# Altium integrated library Wurth_Elektronik_Passive_rev16a.IntLib: 1143 symbols (part 27 of 28)
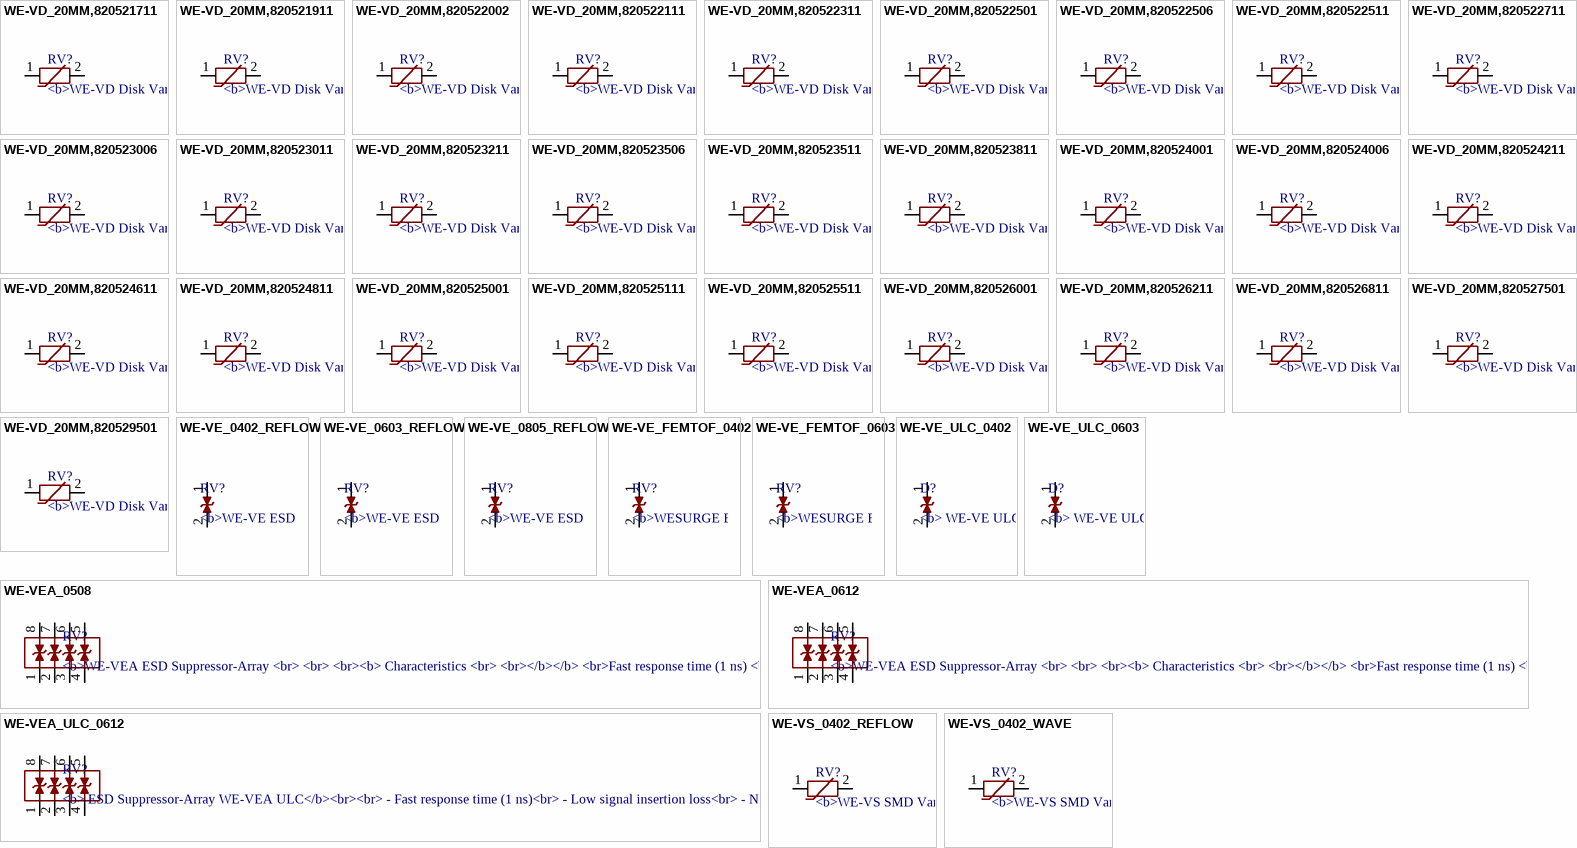
[diagram p84: symbols WE-VD_20MM,820521711 to WE-VS_0402_WAVE]

## WE-VE_0402_REFLOW
designator RV?, comment <b>WE-VE ESD Suppressor / <br> / <br> / <br><b> Characteristics / <br> / <br></b></b> Fast response time / <br> / <br> No leakage current / <br> / <br> Low clamping voltage / <br> / <br> Almost no energy consumption in stand-by mode / <br> / <br> Excellent absorption for ESD-impulses / <br> / <br> Operating temperature: –40 ºC to +85 ºC / <br> / <br> Nickel barrier / <br> / <br> / <br><b> Applications / <br> / <br></b> Protection of data lines / <br> / <br> Protection of bus systems / <br> / <br> Protection of semiconductors / <br> / <br> ESD protection in accordance with EN 61000-4-2 – 8 kV contact discharge – 15 kV air discharge / <br> / <br> / <br> / <br><a href="http://katalog.we-online.de/media/images/eisos/VarVE_pf2.jpg" title="Enlarge picture"> / <img src="http://katalog.we-online.de/media/images/eisos/VarVE_pf2.jpg" width="320"></a><p> / Details see: <a href="http://katalog.we-online.de/en/pbs/WE-VE?">http://katalog.we-online.de/en/pbs/WE-VE?</a><p> / Updated  by  Dan Xu 2014-07-11<br> / 2014 (C) Wurth Elektronik
footprint WESURGE_0402_REFLOW
pins: 1, 2

## WE-VE_0603_REFLOW
designator RV?, comment <b>WE-VE ESD Suppressor / <br> / <br> / <br><b> Characteristics / <br> / <br></b></b> Fast response time / <br> / <br> No leakage current / <br> / <br> Low clamping voltage / <br> / <br> Almost no energy consumption in stand-by mode / <br> / <br> Excellent absorption for ESD-impulses / <br> / <br> Operating temperature: –40 ºC to +85 ºC / <br> / <br> Nickel barrier / <br> / <br> / <br><b> Applications / <br> / <br></b> Protection of data lines / <br> / <br> Protection of bus systems / <br> / <br> Protection of semiconductors / <br> / <br> ESD protection in accordance with EN 61000-4-2 – 8 kV contact discharge – 15 kV air discharge / <br> / <br> / <br> / <br><a href="http://katalog.we-online.de/media/images/eisos/VarVE_pf2.jpg" title="Enlarge picture"> / <img src="http://katalog.we-online.de/media/images/eisos/VarVE_pf2.jpg" width="320"></a><p> / Details see: <a href="http://katalog.we-online.de/en/pbs/WE-VE?">http://katalog.we-online.de/en/pbs/WE-VE?</a><p> / Updated  by  Dan Xu 2014-07-11<br> / 2014 (C) Wurth Elektronik
footprint WESURGE_0603_REFLOW
pins: 1, 2

## WE-VE_0805_REFLOW
designator RV?, comment <b>WE-VE ESD Suppressor / <br> / <br> / <br><b> Characteristics / <br> / <br></b></b> Fast response time / <br> / <br> No leakage current / <br> / <br> Low clamping voltage / <br> / <br> Almost no energy consumption in stand-by mode / <br> / <br> Excellent absorption for ESD-impulses / <br> / <br> Operating temperature: –40 ºC to +85 ºC / <br> / <br> Nickel barrier / <br> / <br> / <br><b> Applications / <br> / <br></b> Protection of data lines / <br> / <br> Protection of bus systems / <br> / <br> Protection of semiconductors / <br> / <br> ESD protection in accordance with EN 61000-4-2 – 8 kV contact discharge – 15 kV air discharge / <br> / <br> / <br> / <br><a href="http://katalog.we-online.de/media/images/eisos/VarVE_pf2.jpg" title="Enlarge picture"> / <img src="http://katalog.we-online.de/media/images/eisos/VarVE_pf2.jpg" width="320"></a><p> / Details see: <a href="http://katalog.we-online.de/en/pbs/WE-VE?">http://katalog.we-online.de/en/pbs/WE-VE?</a><p> / Updated  by  Dan Xu 2014-07-11<br> / 2014 (C) Wurth Elektronik
footprint WESURGE_0805_REFLOW
pins: 1, 2

## WE-VE_FEMTOF_0402
designator RV?, comment <b>WESURGE ESD Suppressor WE-VE femtoF</b><br><br> / - low capacitance: 0,05 pF<br> / - Low leakage current: 1 nA<br> / - ESD electrical strenght >2000 impulses<br> / - Bi-directional protection<br> / - ESD protection > 15 kV<br> / - high reliability<br> / - Nickel barrier<br><br> / -- Antenna<br> / -- HDMI / DVI / VGA<br> / -- USB 2.0 / IEEE1394<br> / -- Lan 10 GBit
footprint WE-VE_FEMTOF_0402
pins: 1, 2

## WE-VE_FEMTOF_0603
designator RV?, comment <b>WESURGE ESD Suppressor WE-VE femtoF</b><br><br> / - low capacitance: 0,05 pF<br> / - Low leakage current: 1 nA<br> / - ESD electrical strenght >2000 impulses<br> / - Bi-directional protection<br> / - ESD protection > 15 kV<br> / - high reliability<br> / - Nickel barrier<br><br> / -- Antenna<br> / -- HDMI / DVI / VGA<br> / -- USB 2.0 / IEEE1394<br> / -- Lan 10 GBit
footprint WE-VE_FEMTOF_0603
pins: 1, 2

## WE-VE_ULC_0402
designator D?, comment <b> WE-VE ULC ESD Suppressor / <br> / <br> / <br><b> Characteristics / <br> / <br></b></b> Fast response time / <br> / <br> No leakage current / <br> / <br> Low clamping voltage / <br> / <br> Almost no energy consumption in stand-by mode / <br> / <br> Excellent absorption for ESD-impulses / <br> / <br> Operating temperature: –40 ºC to +85 ºC / <br> / <br> Nickel barrier / <br> / <br> / <br><b> Applications / <br> / <br></b> Protection of data lines / <br> / <br> Protection of bus systems / <br> / <br> Protection of semiconductors / <br> / <br> ESD protection in accordance with EN 61000-4-2 – 8 kV contact discharge – 15 kV air discharge / <br> / <br> / <br> / <br><a href="http://katalog.we-online.de/media/images/eisos/VarVE_ULC_pf2.jpg" title="Enlarge picture"> / <img src="http://katalog.we-online.de/media/images/eisos/VarVE_ULC_pf2.jpg" width="320"></a><p> / Details see: <a href="http://katalog.we-online.de/en/pbs/WE-VE_ULC?">http://katalog.we-online.de/en/pbs/WE-VE_ULC?</a><p> / Updated  by  Dan Xu 2014-07-11<br> / 2014 (C) Wurth Elektronik
footprint WE-VE_ULC_0402
pins: 1, 2

## WE-VE_ULC_0603
designator D?, comment <b> WE-VE ULC ESD Suppressor / <br> / <br> / <br><b> Characteristics / <br> / <br></b></b> Fast response time / <br> / <br> No leakage current / <br> / <br> Low clamping voltage / <br> / <br> Almost no energy consumption in stand-by mode / <br> / <br> Excellent absorption for ESD-impulses / <br> / <br> Operating temperature: –40 ºC to +85 ºC / <br> / <br> Nickel barrier / <br> / <br> / <br><b> Applications / <br> / <br></b> Protection of data lines / <br> / <br> Protection of bus systems / <br> / <br> Protection of semiconductors / <br> / <br> ESD protection in accordance with EN 61000-4-2 – 8 kV contact discharge – 15 kV air discharge / <br> / <br> / <br> / <br><a href="http://katalog.we-online.de/media/images/eisos/VarVE_ULC_pf2.jpg" title="Enlarge picture"> / <img src="http://katalog.we-online.de/media/images/eisos/VarVE_ULC_pf2.jpg" width="320"></a><p> / Details see: <a href="http://katalog.we-online.de/en/pbs/WE-VE_ULC?">http://katalog.we-online.de/en/pbs/WE-VE_ULC?</a><p> / Updated  by  Dan Xu 2014-07-11<br> / 2014 (C) Wurth Elektronik
footprint WE-VE_ULC_0603
pins: 1, 2

## WE-VEA_0508
designator RV?, comment <b>WE-VEA ESD Suppressor-Array / <br> / <br> / <br><b> Characteristics / <br> / <br></b></b> <br>Fast response time (1 ns) / <br> / <br> Low signal insertion loss / <br> / <br> No leakage current / <br> / <br> Low clamping voltage / <br> / <br> Almost no energy consumption in stand-by mode / <br> / <br> Excellent absorption for ESD-impulses / <br> / <br> Operating temperature: –40 ºC to +85 ºC / <br> / <br> / <br><b> Applications / <br> / <br><b> Protection of data lines / <br> / <br> Protection of bus systems / <br> / <br> Protection of video transmission lines / <br> / <br> Protection of semiconductors / <br> / <br> ESD protection in accordance with EN 61000-4-2 / <br> / <br> / <br> / <br><a href="http://katalog.we-online.de/media/images/eisos/VarVEA_pf2.jpg" title="Enlarge picture"> / <img src="http://katalog.we-online.de/media/images/eisos/VarVEA_pf2.jpg" width="320"></a><p> / Details see: <a href="http://katalog.we-online.de/en/pbs/WE-VEA?">http://katalog.we-online.de/en/pbs/WE-VEA?</a><p> / Updated  by  Dan Xu 2014-07-11<br> / 2014 (C) Wurth Elektronik
footprint WE-VEA_0508
pins: 1, 2, 3, 4, 5, 6, 7, 8

## WE-VEA_0612
designator RV?, comment <b>WE-VEA ESD Suppressor-Array / <br> / <br> / <br><b> Characteristics / <br> / <br></b></b> <br>Fast response time (1 ns) / <br> / <br> Low signal insertion loss / <br> / <br> No leakage current / <br> / <br> Low clamping voltage / <br> / <br> Almost no energy consumption in stand-by mode / <br> / <br> Excellent absorption for ESD-impulses / <br> / <br> Operating temperature: –40 ºC to +85 ºC / <br> / <br> / <br><b> Applications / <br> / <br><b> Protection of data lines / <br> / <br> Protection of bus systems / <br> / <br> Protection of video transmission lines / <br> / <br> Protection of semiconductors / <br> / <br> ESD protection in accordance with EN 61000-4-2 / <br> / <br> / <br> / <br><a href="http://katalog.we-online.de/media/images/eisos/VarVEA_pf2.jpg" title="Enlarge picture"> / <img src="http://katalog.we-online.de/media/images/eisos/VarVEA_pf2.jpg" width="320"></a><p> / Details see: <a href="http://katalog.we-online.de/en/pbs/WE-VEA?">http://katalog.we-online.de/en/pbs/WE-VEA?</a><p> / Updated  by  Dan Xu 2014-07-11<br> / 2014 (C) Wurth Elektronik
footprint WE-VEA_0612
pins: 1, 2, 3, 4, 5, 6, 7, 8

## WE-VEA_ULC_0612
designator RV?, comment <b> ESD Suppressor-Array WE-VEA ULC</b><br><br> / - Fast response time (1 ns)<br> / - Low signal insertion loss<br> / - No leakage current<br> / - Low clamping voltage<br> / - Almost no energy consumption in stand-by mode<br> / - Excellent absorption for ESD-impulses<br><br> / -- Protection data lines<br> / -- Protection of bus systems<br> / -- Protection of video transmission lines <br> / -- Protection of semiconductors<br> / -- ESD protection in accordance with EN 61000-4-2 / <br><a href="http://katalog.we-online.de/media/images/eisos/VarVEA_pf2.jpg" title="Enlarge picture"> / <img src="http://katalog.we-online.de/media/images/eisos/VarVEA_pf2.jpg" width="320"></a><p> / Details see: <a href="http://katalog.we-online.de/en/pbs/WE-VEA?">http://katalog.we-online.de/en/pbs/WE-VEA?</a><p> / Updated  by  Dan Xu 2014-07-11<br> / 2014 (C) Würth Elektronik
footprint WE-VEA_0612
pins: 1, 2, 3, 4, 5, 6, 7, 8

## WE-VS_0402_REFLOW
designator RV?, comment <b>WE-VS SMD Varistor / <br> / <br> / <br><b> Characteristics / <br> / <br></b></b> Fast response time / <br> / <br> Low leakage current / <br> / <br> Nickel barrier for leadfree soldering / <br> / <br> Operating temperature: –40 ºC to +85 ºC / <br> / <br> / <br><b> Applications / <br> / <br></b> Protection of DC distribution / <br> / <br> Protection of power supply / <br> / <br> Protection of bus systems and communication lines / <br> / <br> Limiting of overvoltages / <br> / <br> Protection of semiconductors / <br> / <br> Surge protection in accordance with EN 61000-4-5 / <br> / <br> ESD protection in accordance with EN 61000-4-2 / <br> / <br> Burst protection in accordance with EN 61000-4-4 / <br> / <br> / <br> / <br><a href="http://katalog.we-online.de/media/images/eisos/VarVS_pf2.jpg" title="Enlarge picture"> / <img src="http://katalog.we-online.de/media/images/eisos/VarVS_pf2.jpg" width="320"></a><p> / Details see: <a href="http://katalog.we-online.de/en/pbs/WE-VS?">http://katalog.we-online.de/en/pbs/WE-VS?</a><p> / Updated  by  Dan Xu 2014-07-11<br> / 2014 (C) Wurth Elektronik
footprint WESURGE_0402_REFLOW
pins: 1, 2

## WE-VS_0402_WAVE
designator RV?, comment <b>WE-VS SMD Varistor / <br> / <br> / <br><b> Characteristics / <br> / <br></b></b> Fast response time / <br> / <br> Low leakage current / <br> / <br> Nickel barrier for leadfree soldering / <br> / <br> Operating temperature: –40 ºC to +85 ºC / <br> / <br> / <br><b> Applications / <br> / <br></b> Protection of DC distribution / <br> / <br> Protection of power supply / <br> / <br> Protection of bus systems and communication lines / <br> / <br> Limiting of overvoltages / <br> / <br> Protection of semiconductors / <br> / <br> Surge protection in accordance with EN 61000-4-5 / <br> / <br> ESD protection in accordance with EN 61000-4-2 / <br> / <br> Burst protection in accordance with EN 61000-4-4 / <br> / <br> / <br> / <br><a href="http://katalog.we-online.de/media/images/eisos/VarVS_pf2.jpg" title="Enlarge picture"> / <img src="http://katalog.we-online.de/media/images/eisos/VarVS_pf2.jpg" width="320"></a><p> / Details see: <a href="http://katalog.we-online.de/en/pbs/WE-VS?">http://katalog.we-online.de/en/pbs/WE-VS?</a><p> / Updated  by  Dan Xu 2014-07-11<br> / 2014 (C) Wurth Elektronik
footprint WESURGE_0402_WAVE
pins: 1, 2

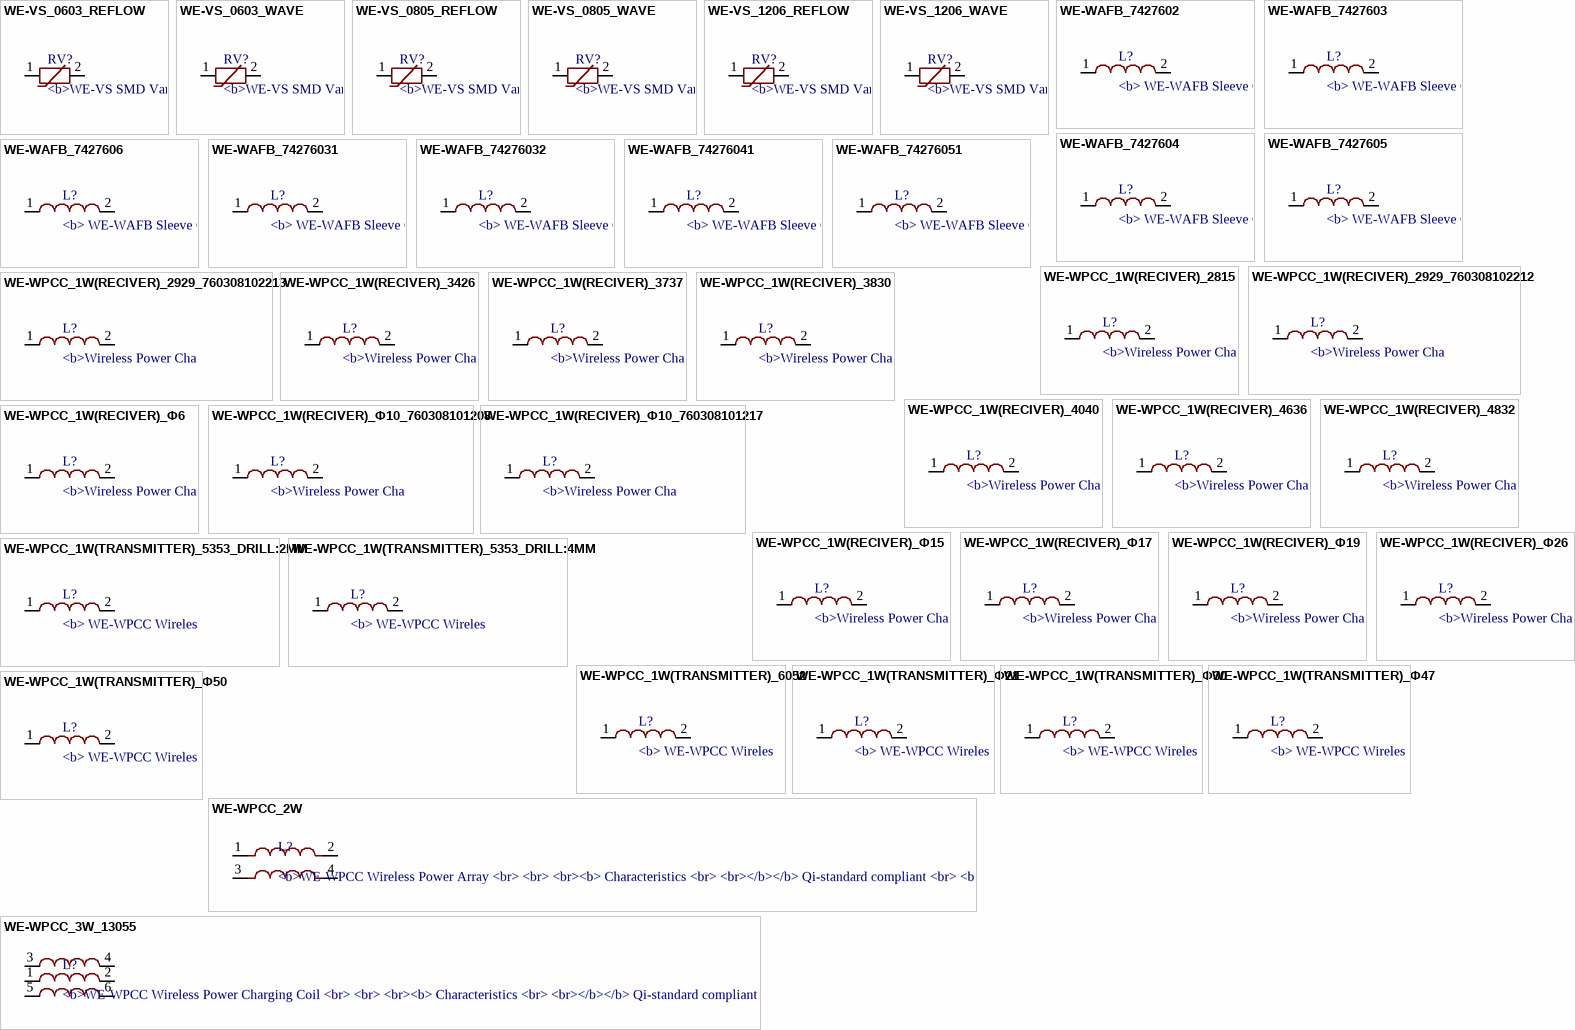
[diagram p57: symbols WE-VS_0603_REFLOW to WE-WPCC_3W_13055]

## WE-VS_0603_REFLOW
designator RV?, comment <b>WE-VS SMD Varistor / <br> / <br> / <br><b> Characteristics / <br> / <br></b></b> Fast response time / <br> / <br> Low leakage current / <br> / <br> Nickel barrier for leadfree soldering / <br> / <br> Operating temperature: –40 ºC to +85 ºC / <br> / <br> / <br><b> Applications / <br> / <br></b> Protection of DC distribution / <br> / <br> Protection of power supply / <br> / <br> Protection of bus systems and communication lines / <br> / <br> Limiting of overvoltages / <br> / <br> Protection of semiconductors / <br> / <br> Surge protection in accordance with EN 61000-4-5 / <br> / <br> ESD protection in accordance with EN 61000-4-2 / <br> / <br> Burst protection in accordance with EN 61000-4-4 / <br> / <br> / <br> / <br><a href="http://katalog.we-online.de/media/images/eisos/VarVS_pf2.jpg" title="Enlarge picture"> / <img src="http://katalog.we-online.de/media/images/eisos/VarVS_pf2.jpg" width="320"></a><p> / Details see: <a href="http://katalog.we-online.de/en/pbs/WE-VS?">http://katalog.we-online.de/en/pbs/WE-VS?</a><p> / Updated  by  Dan Xu 2014-07-11<br> / 2014 (C) Wurth Elektronik
footprint WESURGE_0603_REFLOW
pins: 1, 2

## WE-VS_0603_WAVE
designator RV?, comment <b>WE-VS SMD Varistor / <br> / <br> / <br><b> Characteristics / <br> / <br></b></b> Fast response time / <br> / <br> Low leakage current / <br> / <br> Nickel barrier for leadfree soldering / <br> / <br> Operating temperature: –40 ºC to +85 ºC / <br> / <br> / <br><b> Applications / <br> / <br></b> Protection of DC distribution / <br> / <br> Protection of power supply / <br> / <br> Protection of bus systems and communication lines / <br> / <br> Limiting of overvoltages / <br> / <br> Protection of semiconductors / <br> / <br> Surge protection in accordance with EN 61000-4-5 / <br> / <br> ESD protection in accordance with EN 61000-4-2 / <br> / <br> Burst protection in accordance with EN 61000-4-4 / <br> / <br> / <br> / <br><a href="http://katalog.we-online.de/media/images/eisos/VarVS_pf2.jpg" title="Enlarge picture"> / <img src="http://katalog.we-online.de/media/images/eisos/VarVS_pf2.jpg" width="320"></a><p> / Details see: <a href="http://katalog.we-online.de/en/pbs/WE-VS?">http://katalog.we-online.de/en/pbs/WE-VS?</a><p> / Updated  by  Dan Xu 2014-07-11<br> / 2014 (C) Wurth Elektronik
footprint WESURGE_0603_WAVE
pins: 1, 2

## WE-VS_0805_REFLOW
designator RV?, comment <b>WE-VS SMD Varistor / <br> / <br> / <br><b> Characteristics / <br> / <br></b></b> Fast response time / <br> / <br> Low leakage current / <br> / <br> Nickel barrier for leadfree soldering / <br> / <br> Operating temperature: –40 ºC to +85 ºC / <br> / <br> / <br><b> Applications / <br> / <br></b> Protection of DC distribution / <br> / <br> Protection of power supply / <br> / <br> Protection of bus systems and communication lines / <br> / <br> Limiting of overvoltages / <br> / <br> Protection of semiconductors / <br> / <br> Surge protection in accordance with EN 61000-4-5 / <br> / <br> ESD protection in accordance with EN 61000-4-2 / <br> / <br> Burst protection in accordance with EN 61000-4-4 / <br> / <br> / <br> / <br><a href="http://katalog.we-online.de/media/images/eisos/VarVS_pf2.jpg" title="Enlarge picture"> / <img src="http://katalog.we-online.de/media/images/eisos/VarVS_pf2.jpg" width="320"></a><p> / Details see: <a href="http://katalog.we-online.de/en/pbs/WE-VS?">http://katalog.we-online.de/en/pbs/WE-VS?</a><p> / Updated  by  Dan Xu 2014-07-11<br> / 2014 (C) Wurth Elektronik
footprint WESURGE_0805_REFLOW
pins: 1, 2

## WE-VS_0805_WAVE
designator RV?, comment <b>WE-VS SMD Varistor / <br> / <br> / <br><b> Characteristics / <br> / <br></b></b> Fast response time / <br> / <br> Low leakage current / <br> / <br> Nickel barrier for leadfree soldering / <br> / <br> Operating temperature: –40 ºC to +85 ºC / <br> / <br> / <br><b> Applications / <br> / <br></b> Protection of DC distribution / <br> / <br> Protection of power supply / <br> / <br> Protection of bus systems and communication lines / <br> / <br> Limiting of overvoltages / <br> / <br> Protection of semiconductors / <br> / <br> Surge protection in accordance with EN 61000-4-5 / <br> / <br> ESD protection in accordance with EN 61000-4-2 / <br> / <br> Burst protection in accordance with EN 61000-4-4 / <br> / <br> / <br> / <br><a href="http://katalog.we-online.de/media/images/eisos/VarVS_pf2.jpg" title="Enlarge picture"> / <img src="http://katalog.we-online.de/media/images/eisos/VarVS_pf2.jpg" width="320"></a><p> / Details see: <a href="http://katalog.we-online.de/en/pbs/WE-VS?">http://katalog.we-online.de/en/pbs/WE-VS?</a><p> / Updated  by  Dan Xu 2014-07-11<br> / 2014 (C) Wurth Elektronik
footprint WESURGE_0805_WAVE
pins: 1, 2

## WE-VS_1206_REFLOW
designator RV?, comment <b>WE-VS SMD Varistor / <br> / <br> / <br><b> Characteristics / <br> / <br></b></b> Fast response time / <br> / <br> Low leakage current / <br> / <br> Nickel barrier for leadfree soldering / <br> / <br> Operating temperature: –40 ºC to +85 ºC / <br> / <br> / <br><b> Applications / <br> / <br></b> Protection of DC distribution / <br> / <br> Protection of power supply / <br> / <br> Protection of bus systems and communication lines / <br> / <br> Limiting of overvoltages / <br> / <br> Protection of semiconductors / <br> / <br> Surge protection in accordance with EN 61000-4-5 / <br> / <br> ESD protection in accordance with EN 61000-4-2 / <br> / <br> Burst protection in accordance with EN 61000-4-4 / <br> / <br> / <br> / <br><a href="http://katalog.we-online.de/media/images/eisos/VarVS_pf2.jpg" title="Enlarge picture"> / <img src="http://katalog.we-online.de/media/images/eisos/VarVS_pf2.jpg" width="320"></a><p> / Details see: <a href="http://katalog.we-online.de/en/pbs/WE-VS?">http://katalog.we-online.de/en/pbs/WE-VS?</a><p> / Updated  by  Dan Xu 2014-07-11<br> / 2014 (C) Wurth Elektronik
footprint WESURGE_1206_REFLOW
pins: 1, 2

## WE-VS_1206_WAVE
designator RV?, comment <b>WE-VS SMD Varistor / <br> / <br> / <br><b> Characteristics / <br> / <br></b></b> Fast response time / <br> / <br> Low leakage current / <br> / <br> Nickel barrier for leadfree soldering / <br> / <br> Operating temperature: –40 ºC to +85 ºC / <br> / <br> / <br><b> Applications / <br> / <br></b> Protection of DC distribution / <br> / <br> Protection of power supply / <br> / <br> Protection of bus systems and communication lines / <br> / <br> Limiting of overvoltages / <br> / <br> Protection of semiconductors / <br> / <br> Surge protection in accordance with EN 61000-4-5 / <br> / <br> ESD protection in accordance with EN 61000-4-2 / <br> / <br> Burst protection in accordance with EN 61000-4-4 / <br> / <br> / <br> / <br><a href="http://katalog.we-online.de/media/images/eisos/VarVS_pf2.jpg" title="Enlarge picture"> / <img src="http://katalog.we-online.de/media/images/eisos/VarVS_pf2.jpg" width="320"></a><p> / Details see: <a href="http://katalog.we-online.de/en/pbs/WE-VS?">http://katalog.we-online.de/en/pbs/WE-VS?</a><p> / Updated  by  Dan Xu 2014-07-11<br> / 2014 (C) Wurth Elektronik
footprint WESURGE_1206_WAVE
pins: 1, 2

## WE-WAFB_7427602
designator L?, comment <b> WE-WAFB Sleeve Choke / <br> / <br> / <br><b> Characteristics / <br> / <br></b></b> Ferrite cores for easy PCB assembly / <br> / <br> Three different materials available / <br>(3 W 300/ 3 W 800/ 4 W 1500 C) / <br> / <br> Operating temperature: –25 ºC to +125 ºC / <br> / <br><b> Applications / <br> / <br></b> THT components / <br> / <br> Sensors / <br> / <br><a href="http://katalog.we-online.de/media/thumbs2/eisos/thb_FeWAFB_pf2.jpg"> / <img src="http://katalog.we-online.de/media/thumbs2/eisos/thb_FeWAFB_pf2.jpg" width="320"></a><p> / Details see: <a href="http://katalog.we-online.de/en/pbs/WE-WAFB"> / http://katalog.we-online.de/en/pbs/WE-WAFB </a><p> / Created on 2015-05-04<br> / 2015 (C) Wurth Elektronik
footprint WE-WAFB_7427602
pins: 1, 2

## WE-WAFB_7427603
designator L?, comment <b> WE-WAFB Sleeve Choke / <br> / <br> / <br><b> Characteristics / <br> / <br></b></b> Ferrite cores for easy PCB assembly / <br> / <br> Three different materials available / <br>(3 W 300/ 3 W 800/ 4 W 1500 C) / <br> / <br> Operating temperature: –25 ºC to +125 ºC / <br> / <br><b> Applications / <br> / <br></b> THT components / <br> / <br> Sensors / <br> / <br><a href="http://katalog.we-online.de/media/thumbs2/eisos/thb_FeWAFB_pf2.jpg"> / <img src="http://katalog.we-online.de/media/thumbs2/eisos/thb_FeWAFB_pf2.jpg" width="320"></a><p> / Details see: <a href="http://katalog.we-online.de/en/pbs/WE-WAFB"> / http://katalog.we-online.de/en/pbs/WE-WAFB </a><p> / Created on 2015-05-04<br> / 2015 (C) Wurth Elektronik
footprint WE-WAFB_7427603
pins: 1, 2

## WE-WAFB_7427604
designator L?, comment <b> WE-WAFB Sleeve Choke / <br> / <br> / <br><b> Characteristics / <br> / <br></b></b> Ferrite cores for easy PCB assembly / <br> / <br> Three different materials available / <br>(3 W 300/ 3 W 800/ 4 W 1500 C) / <br> / <br> Operating temperature: –25 ºC to +125 ºC / <br> / <br><b> Applications / <br> / <br></b> THT components / <br> / <br> Sensors / <br> / <br><a href="http://katalog.we-online.de/media/thumbs2/eisos/thb_FeWAFB_pf2.jpg"> / <img src="http://katalog.we-online.de/media/thumbs2/eisos/thb_FeWAFB_pf2.jpg" width="320"></a><p> / Details see: <a href="http://katalog.we-online.de/en/pbs/WE-WAFB"> / http://katalog.we-online.de/en/pbs/WE-WAFB </a><p> / Created on 2015-05-04<br> / 2015 (C) Wurth Elektronik
footprint WE-WAFB_7427604
pins: 1, 2

## WE-WAFB_7427605
designator L?, comment <b> WE-WAFB Sleeve Choke / <br> / <br> / <br><b> Characteristics / <br> / <br></b></b> Ferrite cores for easy PCB assembly / <br> / <br> Three different materials available / <br>(3 W 300/ 3 W 800/ 4 W 1500 C) / <br> / <br> Operating temperature: –25 ºC to +125 ºC / <br> / <br><b> Applications / <br> / <br></b> THT components / <br> / <br> Sensors / <br> / <br><a href="http://katalog.we-online.de/media/thumbs2/eisos/thb_FeWAFB_pf2.jpg"> / <img src="http://katalog.we-online.de/media/thumbs2/eisos/thb_FeWAFB_pf2.jpg" width="320"></a><p> / Details see: <a href="http://katalog.we-online.de/en/pbs/WE-WAFB"> / http://katalog.we-online.de/en/pbs/WE-WAFB </a><p> / Created on 2015-05-04<br> / 2015 (C) Wurth Elektronik
footprint WE-WAFB_7427605
pins: 1, 2

## WE-WAFB_7427606
designator L?, comment <b> WE-WAFB Sleeve Choke / <br> / <br> / <br><b> Characteristics / <br> / <br></b></b> Ferrite cores for easy PCB assembly / <br> / <br> Three different materials available / <br>(3 W 300/ 3 W 800/ 4 W 1500 C) / <br> / <br> Operating temperature: –25 ºC to +125 ºC / <br> / <br><b> Applications / <br> / <br></b> THT components / <br> / <br> Sensors / <br> / <br><a href="http://katalog.we-online.de/media/thumbs2/eisos/thb_FeWAFB_pf2.jpg"> / <img src="http://katalog.we-online.de/media/thumbs2/eisos/thb_FeWAFB_pf2.jpg" width="320"></a><p> / Details see: <a href="http://katalog.we-online.de/en/pbs/WE-WAFB"> / http://katalog.we-online.de/en/pbs/WE-WAFB </a><p> / Created on 2015-05-04<br> / 2015 (C) Wurth Elektronik
footprint WE-WAFB_7427606
pins: 1, 2

## WE-WAFB_74276031
designator L?, comment <b> WE-WAFB Sleeve Choke / <br> / <br> / <br><b> Characteristics / <br> / <br></b></b> Ferrite cores for easy PCB assembly / <br> / <br> Three different materials available / <br>(3 W 300/ 3 W 800/ 4 W 1500 C) / <br> / <br> Operating temperature: –25 ºC to +125 ºC / <br> / <br><b> Applications / <br> / <br></b> THT components / <br> / <br> Sensors / <br> / <br><a href="http://katalog.we-online.de/media/thumbs2/eisos/thb_FeWAFB_pf2.jpg"> / <img src="http://katalog.we-online.de/media/thumbs2/eisos/thb_FeWAFB_pf2.jpg" width="320"></a><p> / Details see: <a href="http://katalog.we-online.de/en/pbs/WE-WAFB"> / http://katalog.we-online.de/en/pbs/WE-WAFB </a><p> / Created on 2015-05-04<br> / 2015 (C) Wurth Elektronik
footprint WE-WAFB_74276031
pins: 1, 2

## WE-WAFB_74276032
designator L?, comment <b> WE-WAFB Sleeve Choke / <br> / <br> / <br><b> Characteristics / <br> / <br></b></b> Ferrite cores for easy PCB assembly / <br> / <br> Three different materials available / <br>(3 W 300/ 3 W 800/ 4 W 1500 C) / <br> / <br> Operating temperature: –25 ºC to +125 ºC / <br> / <br><b> Applications / <br> / <br></b> THT components / <br> / <br> Sensors / <br> / <br><a href="http://katalog.we-online.de/media/thumbs2/eisos/thb_FeWAFB_pf2.jpg"> / <img src="http://katalog.we-online.de/media/thumbs2/eisos/thb_FeWAFB_pf2.jpg" width="320"></a><p> / Details see: <a href="http://katalog.we-online.de/en/pbs/WE-WAFB"> / http://katalog.we-online.de/en/pbs/WE-WAFB </a><p> / Created on 2015-05-04<br> / 2015 (C) Wurth Elektronik
footprint WE-WAFB_74276032
pins: 1, 2

## WE-WAFB_74276041
designator L?, comment <b> WE-WAFB Sleeve Choke / <br> / <br> / <br><b> Characteristics / <br> / <br></b></b> Ferrite cores for easy PCB assembly / <br> / <br> Three different materials available / <br>(3 W 300/ 3 W 800/ 4 W 1500 C) / <br> / <br> Operating temperature: –25 ºC to +125 ºC / <br> / <br><b> Applications / <br> / <br></b> THT components / <br> / <br> Sensors / <br> / <br><a href="http://katalog.we-online.de/media/thumbs2/eisos/thb_FeWAFB_pf2.jpg"> / <img src="http://katalog.we-online.de/media/thumbs2/eisos/thb_FeWAFB_pf2.jpg" width="320"></a><p> / Details see: <a href="http://katalog.we-online.de/en/pbs/WE-WAFB"> / http://katalog.we-online.de/en/pbs/WE-WAFB </a><p> / Created on 2015-05-04<br> / 2015 (C) Wurth Elektronik
footprint WE-WAFB_74276041
pins: 1, 2

## WE-WAFB_74276051
designator L?, comment <b> WE-WAFB Sleeve Choke / <br> / <br> / <br><b> Characteristics / <br> / <br></b></b> Ferrite cores for easy PCB assembly / <br> / <br> Three different materials available / <br>(3 W 300/ 3 W 800/ 4 W 1500 C) / <br> / <br> Operating temperature: –25 ºC to +125 ºC / <br> / <br><b> Applications / <br> / <br></b> THT components / <br> / <br> Sensors / <br> / <br><a href="http://katalog.we-online.de/media/thumbs2/eisos/thb_FeWAFB_pf2.jpg"> / <img src="http://katalog.we-online.de/media/thumbs2/eisos/thb_FeWAFB_pf2.jpg" width="320"></a><p> / Details see: <a href="http://katalog.we-online.de/en/pbs/WE-WAFB"> / http://katalog.we-online.de/en/pbs/WE-WAFB </a><p> / Created on 2015-05-04<br> / 2015 (C) Wurth Elektronik
footprint WE-WAFB_74276051
pins: 1, 2

## WE-WPCC_1W(RECIVER)_2815
designator L?, comment <b>Wireless Power Charging Coil</b><br> / -Qi standard compliant<br> / -Thinnest on the market<br> / -Easiness of assembly<br> / -Evaluated and approved by very major semiconductor manufacturer<br> / -Litz wire-highest Q-value on the market<br> / -Applicable for up to 5W<br> / -High permeability shielding<br> / -Cancels charging flux to be not coupled into sensitive components or batteries<br> / -High reliable construction<br> / <br> / <br> / -- Portable devices used in a clean area .where connectors pose a risk of polluting e.g. medical facilities,(industrial )clean rooms,mining industry<br> / --Devices with a large number of mating cycles to avoid connector damage:eg.Smart watches,fittness tracker...<br> / --Consumer products:eg. Digital cameras,baby phone,walkie talky remote control,smartphone sleeves,watertight products<br> / --Explosion sensitive area where the use of a physical connection is hazardous<br> / --Smart sensors<br> / <br><a href="http://katalog.we-online.de/media/images/eisos/UtWPCC_Receiver_pf2.jpg" title="Enlarge picture"> / <img src="http://katalog.we-online.de/media/thumbs2/eisos/thb_UtWPCC_Receiver_pf2.jpg" width="320"></a><p> / Details see: <a href="http://katalog.we-online.de/en/pbs/WE-WPCC_Receiver">http://katalog.we-online.de/en/pbs/WE-WPCC_Receiver</a><p> / Created by  Dan Xu 2014-05-21<br> / 2014 (C) Würth Elektronik
footprint WE-WPCC_2815
pins: 1, 2

## WE-WPCC_1W(RECIVER)_2929_760308102212
designator L?, comment <b>Wireless Power Charging Coil</b><br> / -Qi standard compliant<br> / -Thinnest on the market<br> / -Easiness of assembly<br> / -Evaluated and approved by very major semiconductor manufacturer<br> / -Litz wire-highest Q-value on the market<br> / -Applicable for up to 5W<br> / -High permeability shielding<br> / -Cancels charging flux to be not coupled into sensitive components or batteries<br> / -High reliable construction<br> / <br> / <br> / -- Portable devices used in a clean area .where connectors pose a risk of polluting e.g. medical facilities,(industrial )clean rooms,mining industry<br> / --Devices with a large number of mating cycles to avoid connector damage:eg.Smart watches,fittness tracker...<br> / --Consumer products:eg. Digital cameras,baby phone,walkie talky remote control,smartphone sleeves,watertight products<br> / --Explosion sensitive area where the use of a physical connection is hazardous<br> / --Smart sensors<br> / <br><a href="http://katalog.we-online.de/media/images/eisos/UtWPCC_Receiver_pf2.jpg" title="Enlarge picture"> / <img src="http://katalog.we-online.de/media/thumbs2/eisos/thb_UtWPCC_Receiver_pf2.jpg" width="320"></a><p> / Details see: <a href="http://katalog.we-online.de/en/pbs/WE-WPCC_Receiver">http://katalog.we-online.de/en/pbs/WE-WPCC_Receiver</a><p> / Created by  Dan Xu 2014-05-21<br> / 2014 (C) Würth Elektronik
footprint WE-WPCC_2929_760308102212
pins: 1, 2

## WE-WPCC_1W(RECIVER)_2929_760308102213
designator L?, comment <b>Wireless Power Charging Coil</b><br> / -Qi standard compliant<br> / -Thinnest on the market<br> / -Easiness of assembly<br> / -Evaluated and approved by very major semiconductor manufacturer<br> / -Litz wire-highest Q-value on the market<br> / -Applicable for up to 5W<br> / -High permeability shielding<br> / -Cancels charging flux to be not coupled into sensitive components or batteries<br> / -High reliable construction<br> / <br> / <br> / -- Portable devices used in a clean area .where connectors pose a risk of polluting e.g. medical facilities,(industrial )clean rooms,mining industry<br> / --Devices with a large number of mating cycles to avoid connector damage:eg.Smart watches,fittness tracker...<br> / --Consumer products:eg. Digital cameras,baby phone,walkie talky remote control,smartphone sleeves,watertight products<br> / --Explosion sensitive area where the use of a physical connection is hazardous<br> / --Smart sensors<br> / <br><a href="http://katalog.we-online.de/media/images/eisos/UtWPCC_Receiver_pf2.jpg" title="Enlarge picture"> / <img src="http://katalog.we-online.de/media/thumbs2/eisos/thb_UtWPCC_Receiver_pf2.jpg" width="320"></a><p> / Details see: <a href="http://katalog.we-online.de/en/pbs/WE-WPCC_Receiver">http://katalog.we-online.de/en/pbs/WE-WPCC_Receiver</a><p> / Created by  Dan Xu 2014-05-21<br> / 2014 (C) Würth Elektronik
footprint WE-WPCC_2929_760308102213
pins: 1, 2

## WE-WPCC_1W(RECIVER)_3426
designator L?, comment <b>Wireless Power Charging Coil</b><br> / -Qi standard compliant<br> / -Thinnest on the market<br> / -Easiness of assembly<br> / -Evaluated and approved by very major semiconductor manufacturer<br> / -Litz wire-highest Q-value on the market<br> / -Applicable for up to 5W<br> / -High permeability shielding<br> / -Cancels charging flux to be not coupled into sensitive components or batteries<br> / -High reliable construction<br> / <br> / <br> / -- Portable devices used in a clean area .where connectors pose a risk of polluting e.g. medical facilities,(industrial )clean rooms,mining industry<br> / --Devices with a large number of mating cycles to avoid connector damage:eg.Smart watches,fittness tracker...<br> / --Consumer products:eg. Digital cameras,baby phone,walkie talky remote control,smartphone sleeves,watertight products<br> / --Explosion sensitive area where the use of a physical connection is hazardous<br> / --Smart sensors<br> / <br><a href="http://katalog.we-online.de/media/images/eisos/UtWPCC_Receiver_pf2.jpg" title="Enlarge picture"> / <img src="http://katalog.we-online.de/media/thumbs2/eisos/thb_UtWPCC_Receiver_pf2.jpg" width="320"></a><p> / Details see: <a href="http://katalog.we-online.de/en/pbs/WE-WPCC_Receiver">http://katalog.we-online.de/en/pbs/WE-WPCC_Receiver</a><p> / Created by  Dan Xu 2014-05-21<br> / 2014 (C) Würth Elektronik
footprint WE-WPCC_3426
pins: 1, 2

## WE-WPCC_1W(RECIVER)_3737
designator L?, comment <b>Wireless Power Charging Coil</b><br> / -Qi standard compliant<br> / -Thinnest on the market<br> / -Easiness of assembly<br> / -Evaluated and approved by very major semiconductor manufacturer<br> / -Litz wire-highest Q-value on the market<br> / -Applicable for up to 5W<br> / -High permeability shielding<br> / -Cancels charging flux to be not coupled into sensitive components or batteries<br> / -High reliable construction<br> / <br> / <br> / -- Portable devices used in a clean area .where connectors pose a risk of polluting e.g. medical facilities,(industrial )clean rooms,mining industry<br> / --Devices with a large number of mating cycles to avoid connector damage:eg.Smart watches,fittness tracker...<br> / --Consumer products:eg. Digital cameras,baby phone,walkie talky remote control,smartphone sleeves,watertight products<br> / --Explosion sensitive area where the use of a physical connection is hazardous<br> / --Smart sensors<br> / <br><a href="http://katalog.we-online.de/media/images/eisos/UtWPCC_Receiver_pf2.jpg" title="Enlarge picture"> / <img src="http://katalog.we-online.de/media/thumbs2/eisos/thb_UtWPCC_Receiver_pf2.jpg" width="320"></a><p> / Details see: <a href="http://katalog.we-online.de/en/pbs/WE-WPCC_Receiver">http://katalog.we-online.de/en/pbs/WE-WPCC_Receiver</a><p> / Created by  Dan Xu 2014-05-21<br> / 2014 (C) Würth Elektronik
footprint WE-WPCC_3737
pins: 1, 2

## WE-WPCC_1W(RECIVER)_3830
designator L?, comment <b>Wireless Power Charging Coil</b><br> / -Qi standard compliant<br> / -Thinnest on the market<br> / -Easiness of assembly<br> / -Evaluated and approved by very major semiconductor manufacturer<br> / -Litz wire-highest Q-value on the market<br> / -Applicable for up to 5W<br> / -High permeability shielding<br> / -Cancels charging flux to be not coupled into sensitive components or batteries<br> / -High reliable construction<br> / <br> / <br> / -- Portable devices used in a clean area .where connectors pose a risk of polluting e.g. medical facilities,(industrial )clean rooms,mining industry<br> / --Devices with a large number of mating cycles to avoid connector damage:eg.Smart watches,fittness tracker...<br> / --Consumer products:eg. Digital cameras,baby phone,walkie talky remote control,smartphone sleeves,watertight products<br> / --Explosion sensitive area where the use of a physical connection is hazardous<br> / --Smart sensors<br> / <br><a href="http://katalog.we-online.de/media/images/eisos/UtWPCC_Receiver_pf2.jpg" title="Enlarge picture"> / <img src="http://katalog.we-online.de/media/thumbs2/eisos/thb_UtWPCC_Receiver_pf2.jpg" width="320"></a><p> / Details see: <a href="http://katalog.we-online.de/en/pbs/WE-WPCC_Receiver">http://katalog.we-online.de/en/pbs/WE-WPCC_Receiver</a><p> / Created by  Dan Xu 2014-05-21<br> / 2014 (C) Würth Elektronik
footprint WE-WPCC_3830
pins: 1, 2

## WE-WPCC_1W(RECIVER)_4040
designator L?, comment <b>Wireless Power Charging Coil</b><br> / -Qi standard compliant<br> / -Thinnest on the market<br> / -Easiness of assembly<br> / -Evaluated and approved by very major semiconductor manufacturer<br> / -Litz wire-highest Q-value on the market<br> / -Applicable for up to 5W<br> / -High permeability shielding<br> / -Cancels charging flux to be not coupled into sensitive components or batteries<br> / -High reliable construction<br> / <br> / <br> / -- Portable devices used in a clean area .where connectors pose a risk of polluting e.g. medical facilities,(industrial )clean rooms,mining industry<br> / --Devices with a large number of mating cycles to avoid connector damage:eg.Smart watches,fittness tracker...<br> / --Consumer products:eg. Digital cameras,baby phone,walkie talky remote control,smartphone sleeves,watertight products<br> / --Explosion sensitive area where the use of a physical connection is hazardous<br> / --Smart sensors<br> / <br><a href="http://katalog.we-online.de/media/images/eisos/UtWPCC_Receiver_pf2.jpg" title="Enlarge picture"> / <img src="http://katalog.we-online.de/media/thumbs2/eisos/thb_UtWPCC_Receiver_pf2.jpg" width="320"></a><p> / Details see: <a href="http://katalog.we-online.de/en/pbs/WE-WPCC_Receiver">http://katalog.we-online.de/en/pbs/WE-WPCC_Receiver</a><p> / Created by  Dan Xu 2014-05-21<br> / 2014 (C) Würth Elektronik
footprint WE-WPCC_4040
pins: 1, 2

## WE-WPCC_1W(RECIVER)_4636
designator L?, comment <b>Wireless Power Charging Coil</b><br> / -Qi standard compliant<br> / -Thinnest on the market<br> / -Easiness of assembly<br> / -Evaluated and approved by very major semiconductor manufacturer<br> / -Litz wire-highest Q-value on the market<br> / -Applicable for up to 5W<br> / -High permeability shielding<br> / -Cancels charging flux to be not coupled into sensitive components or batteries<br> / -High reliable construction<br> / <br> / <br> / -- Portable devices used in a clean area .where connectors pose a risk of polluting e.g. medical facilities,(industrial )clean rooms,mining industry<br> / --Devices with a large number of mating cycles to avoid connector damage:eg.Smart watches,fittness tracker...<br> / --Consumer products:eg. Digital cameras,baby phone,walkie talky remote control,smartphone sleeves,watertight products<br> / --Explosion sensitive area where the use of a physical connection is hazardous<br> / --Smart sensors<br> / <br><a href="http://katalog.we-online.de/media/images/eisos/UtWPCC_Receiver_pf2.jpg" title="Enlarge picture"> / <img src="http://katalog.we-online.de/media/thumbs2/eisos/thb_UtWPCC_Receiver_pf2.jpg" width="320"></a><p> / Details see: <a href="http://katalog.we-online.de/en/pbs/WE-WPCC_Receiver">http://katalog.we-online.de/en/pbs/WE-WPCC_Receiver</a><p> / Created by  Dan Xu 2014-05-21<br> / 2014 (C) Würth Elektronik
footprint WE-WPCC_4636
pins: 1, 2

## WE-WPCC_1W(RECIVER)_4832
designator L?, comment <b>Wireless Power Charging Coil</b><br> / -Qi standard compliant<br> / -Thinnest on the market<br> / -Easiness of assembly<br> / -Evaluated and approved by very major semiconductor manufacturer<br> / -Litz wire-highest Q-value on the market<br> / -Applicable for up to 5W<br> / -High permeability shielding<br> / -Cancels charging flux to be not coupled into sensitive components or batteries<br> / -High reliable construction<br> / <br> / <br> / -- Portable devices used in a clean area .where connectors pose a risk of polluting e.g. medical facilities,(industrial )clean rooms,mining industry<br> / --Devices with a large number of mating cycles to avoid connector damage:eg.Smart watches,fittness tracker...<br> / --Consumer products:eg. Digital cameras,baby phone,walkie talky remote control,smartphone sleeves,watertight products<br> / --Explosion sensitive area where the use of a physical connection is hazardous<br> / --Smart sensors<br> / <br><a href="http://katalog.we-online.de/media/images/eisos/UtWPCC_Receiver_pf2.jpg" title="Enlarge picture"> / <img src="http://katalog.we-online.de/media/thumbs2/eisos/thb_UtWPCC_Receiver_pf2.jpg" width="320"></a><p> / Details see: <a href="http://katalog.we-online.de/en/pbs/WE-WPCC_Receiver">http://katalog.we-online.de/en/pbs/WE-WPCC_Receiver</a><p> / Created by  Dan Xu 2014-05-21<br> / 2014 (C) Würth Elektronik
footprint WE-WPCC_4832
pins: 1, 2

## WE-WPCC_1W(RECIVER)_Φ6
designator L?, comment <b>Wireless Power Charging Coil</b><br> / -Qi standard compliant<br> / -Thinnest on the market<br> / -Easiness of assembly<br> / -Evaluated and approved by very major semiconductor manufacturer<br> / -Litz wire-highest Q-value on the market<br> / -Applicable for up to 5W<br> / -High permeability shielding<br> / -Cancels charging flux to be not coupled into sensitive components or batteries<br> / -High reliable construction<br> / <br> / <br> / -- Portable devices used in a clean area .where connectors pose a risk of polluting e.g. medical facilities,(industrial )clean rooms,mining industry<br> / --Devices with a large number of mating cycles to avoid connector damage:eg.Smart watches,fittness tracker...<br> / --Consumer products:eg. Digital cameras,baby phone,walkie talky remote control,smartphone sleeves,watertight products<br> / --Explosion sensitive area where the use of a physical connection is hazardous<br> / --Smart sensors<br> / <br><a href="http://katalog.we-online.de/media/images/eisos/UtWPCC_Receiver_pf2.jpg" title="Enlarge picture"> / <img src="http://katalog.we-online.de/media/thumbs2/eisos/thb_UtWPCC_Receiver_pf2.jpg" width="320"></a><p> / Details see: <a href="http://katalog.we-online.de/en/pbs/WE-WPCC_Receiver">http://katalog.we-online.de/en/pbs/WE-WPCC_Receiver</a><p> / Created by  Dan Xu 2014-05-21<br> / 2014 (C) Würth Elektronik
footprint WE-WPCC_Φ6
pins: 1, 2

## WE-WPCC_1W(RECIVER)_Φ10_760308101208
designator L?, comment <b>Wireless Power Charging Coil</b><br> / -Qi standard compliant<br> / -Thinnest on the market<br> / -Easiness of assembly<br> / -Evaluated and approved by very major semiconductor manufacturer<br> / -Litz wire-highest Q-value on the market<br> / -Applicable for up to 5W<br> / -High permeability shielding<br> / -Cancels charging flux to be not coupled into sensitive components or batteries<br> / -High reliable construction<br> / <br> / <br> / -- Portable devices used in a clean area .where connectors pose a risk of polluting e.g. medical facilities,(industrial )clean rooms,mining industry<br> / --Devices with a large number of mating cycles to avoid connector damage:eg.Smart watches,fittness tracker...<br> / --Consumer products:eg. Digital cameras,baby phone,walkie talky remote control,smartphone sleeves,watertight products<br> / --Explosion sensitive area where the use of a physical connection is hazardous<br> / --Smart sensors<br> / <br><a href="http://katalog.we-online.de/media/images/eisos/UtWPCC_Receiver_pf2.jpg" title="Enlarge picture"> / <img src="http://katalog.we-online.de/media/thumbs2/eisos/thb_UtWPCC_Receiver_pf2.jpg" width="320"></a><p> / Details see: <a href="http://katalog.we-online.de/en/pbs/WE-WPCC_Receiver">http://katalog.we-online.de/en/pbs/WE-WPCC_Receiver</a><p> / Created by  Dan Xu 2014-05-21<br> / 2014 (C) Würth Elektronik
footprint WE-WPCC_760308101208
pins: 1, 2

## WE-WPCC_1W(RECIVER)_Φ10_760308101217
designator L?, comment <b>Wireless Power Charging Coil</b><br> / -Qi standard compliant<br> / -Thinnest on the market<br> / -Easiness of assembly<br> / -Evaluated and approved by very major semiconductor manufacturer<br> / -Litz wire-highest Q-value on the market<br> / -Applicable for up to 5W<br> / -High permeability shielding<br> / -Cancels charging flux to be not coupled into sensitive components or batteries<br> / -High reliable construction<br> / <br> / <br> / -- Portable devices used in a clean area .where connectors pose a risk of polluting e.g. medical facilities,(industrial )clean rooms,mining industry<br> / --Devices with a large number of mating cycles to avoid connector damage:eg.Smart watches,fittness tracker...<br> / --Consumer products:eg. Digital cameras,baby phone,walkie talky remote control,smartphone sleeves,watertight products<br> / --Explosion sensitive area where the use of a physical connection is hazardous<br> / --Smart sensors<br> / <br><a href="http://katalog.we-online.de/media/images/eisos/UtWPCC_Receiver_pf2.jpg" title="Enlarge picture"> / <img src="http://katalog.we-online.de/media/thumbs2/eisos/thb_UtWPCC_Receiver_pf2.jpg" width="320"></a><p> / Details see: <a href="http://katalog.we-online.de/en/pbs/WE-WPCC_Receiver">http://katalog.we-online.de/en/pbs/WE-WPCC_Receiver</a><p> / Created by  Dan Xu 2014-05-21<br> / 2014 (C) Würth Elektronik
footprint WE-WPCC_760308101217
pins: 1, 2

## WE-WPCC_1W(RECIVER)_Φ15
designator L?, comment <b>Wireless Power Charging Coil</b><br> / -Qi standard compliant<br> / -Thinnest on the market<br> / -Easiness of assembly<br> / -Evaluated and approved by very major semiconductor manufacturer<br> / -Litz wire-highest Q-value on the market<br> / -Applicable for up to 5W<br> / -High permeability shielding<br> / -Cancels charging flux to be not coupled into sensitive components or batteries<br> / -High reliable construction<br> / <br> / <br> / -- Portable devices used in a clean area .where connectors pose a risk of polluting e.g. medical facilities,(industrial )clean rooms,mining industry<br> / --Devices with a large number of mating cycles to avoid connector damage:eg.Smart watches,fittness tracker...<br> / --Consumer products:eg. Digital cameras,baby phone,walkie talky remote control,smartphone sleeves,watertight products<br> / --Explosion sensitive area where the use of a physical connection is hazardous<br> / --Smart sensors<br> / <br><a href="http://katalog.we-online.de/media/images/eisos/UtWPCC_Receiver_pf2.jpg" title="Enlarge picture"> / <img src="http://katalog.we-online.de/media/thumbs2/eisos/thb_UtWPCC_Receiver_pf2.jpg" width="320"></a><p> / Details see: <a href="http://katalog.we-online.de/en/pbs/WE-WPCC_Receiver">http://katalog.we-online.de/en/pbs/WE-WPCC_Receiver</a><p> / Created by  Dan Xu 2014-05-21<br> / 2014 (C) Würth Elektronik
footprint WE-WPCC_Φ15
pins: 1, 2

## WE-WPCC_1W(RECIVER)_Φ17
designator L?, comment <b>Wireless Power Charging Coil</b><br> / -Qi standard compliant<br> / -Thinnest on the market<br> / -Easiness of assembly<br> / -Evaluated and approved by very major semiconductor manufacturer<br> / -Litz wire-highest Q-value on the market<br> / -Applicable for up to 5W<br> / -High permeability shielding<br> / -Cancels charging flux to be not coupled into sensitive components or batteries<br> / -High reliable construction<br> / <br> / <br> / -- Portable devices used in a clean area .where connectors pose a risk of polluting e.g. medical facilities,(industrial )clean rooms,mining industry<br> / --Devices with a large number of mating cycles to avoid connector damage:eg.Smart watches,fittness tracker...<br> / --Consumer products:eg. Digital cameras,baby phone,walkie talky remote control,smartphone sleeves,watertight products<br> / --Explosion sensitive area where the use of a physical connection is hazardous<br> / --Smart sensors<br> / <br><a href="http://katalog.we-online.de/media/images/eisos/UtWPCC_Receiver_pf2.jpg" title="Enlarge picture"> / <img src="http://katalog.we-online.de/media/thumbs2/eisos/thb_UtWPCC_Receiver_pf2.jpg" width="320"></a><p> / Details see: <a href="http://katalog.we-online.de/en/pbs/WE-WPCC_Receiver">http://katalog.we-online.de/en/pbs/WE-WPCC_Receiver</a><p> / Created by  Dan Xu 2014-05-21<br> / 2014 (C) Würth Elektronik
footprint WE-WPCC_Φ17
pins: 1, 2

## WE-WPCC_1W(RECIVER)_Φ19
designator L?, comment <b>Wireless Power Charging Coil</b><br> / -Qi standard compliant<br> / -Thinnest on the market<br> / -Easiness of assembly<br> / -Evaluated and approved by very major semiconductor manufacturer<br> / -Litz wire-highest Q-value on the market<br> / -Applicable for up to 5W<br> / -High permeability shielding<br> / -Cancels charging flux to be not coupled into sensitive components or batteries<br> / -High reliable construction<br> / <br> / <br> / -- Portable devices used in a clean area .where connectors pose a risk of polluting e.g. medical facilities,(industrial )clean rooms,mining industry<br> / --Devices with a large number of mating cycles to avoid connector damage:eg.Smart watches,fittness tracker...<br> / --Consumer products:eg. Digital cameras,baby phone,walkie talky remote control,smartphone sleeves,watertight products<br> / --Explosion sensitive area where the use of a physical connection is hazardous<br> / --Smart sensors<br> / <br><a href="http://katalog.we-online.de/media/images/eisos/UtWPCC_Receiver_pf2.jpg" title="Enlarge picture"> / <img src="http://katalog.we-online.de/media/thumbs2/eisos/thb_UtWPCC_Receiver_pf2.jpg" width="320"></a><p> / Details see: <a href="http://katalog.we-online.de/en/pbs/WE-WPCC_Receiver">http://katalog.we-online.de/en/pbs/WE-WPCC_Receiver</a><p> / Created by  Dan Xu 2014-05-21<br> / 2014 (C) Würth Elektronik
footprint WE-WPCC_Φ19
pins: 1, 2

## WE-WPCC_1W(RECIVER)_Φ26
designator L?, comment <b>Wireless Power Charging Coil</b><br> / -Qi standard compliant<br> / -Thinnest on the market<br> / -Easiness of assembly<br> / -Evaluated and approved by very major semiconductor manufacturer<br> / -Litz wire-highest Q-value on the market<br> / -Applicable for up to 5W<br> / -High permeability shielding<br> / -Cancels charging flux to be not coupled into sensitive components or batteries<br> / -High reliable construction<br> / <br> / <br> / -- Portable devices used in a clean area .where connectors pose a risk of polluting e.g. medical facilities,(industrial )clean rooms,mining industry<br> / --Devices with a large number of mating cycles to avoid connector damage:eg.Smart watches,fittness tracker...<br> / --Consumer products:eg. Digital cameras,baby phone,walkie talky remote control,smartphone sleeves,watertight products<br> / --Explosion sensitive area where the use of a physical connection is hazardous<br> / --Smart sensors<br> / <br><a href="http://katalog.we-online.de/media/images/eisos/UtWPCC_Receiver_pf2.jpg" title="Enlarge picture"> / <img src="http://katalog.we-online.de/media/thumbs2/eisos/thb_UtWPCC_Receiver_pf2.jpg" width="320"></a><p> / Details see: <a href="http://katalog.we-online.de/en/pbs/WE-WPCC_Receiver">http://katalog.we-online.de/en/pbs/WE-WPCC_Receiver</a><p> / Created by  Dan Xu 2014-05-21<br> / 2014 (C) Würth Elektronik
footprint WE-WPCC_Φ26
pins: 1, 2